# Altium footprint library RU_connectors.PcbLib: 17 footprints (part 1 of 2)
Each footprint in its own frame and in the unit in brackets; x right, y up, seen from the top. Pads: shape width x height; smd on the part's side, far side on the other; paste and mask are expansions set on the pad; w line width, h text height; cw(c..) or ccw(c..) is an arc to the next point about the centre after c.
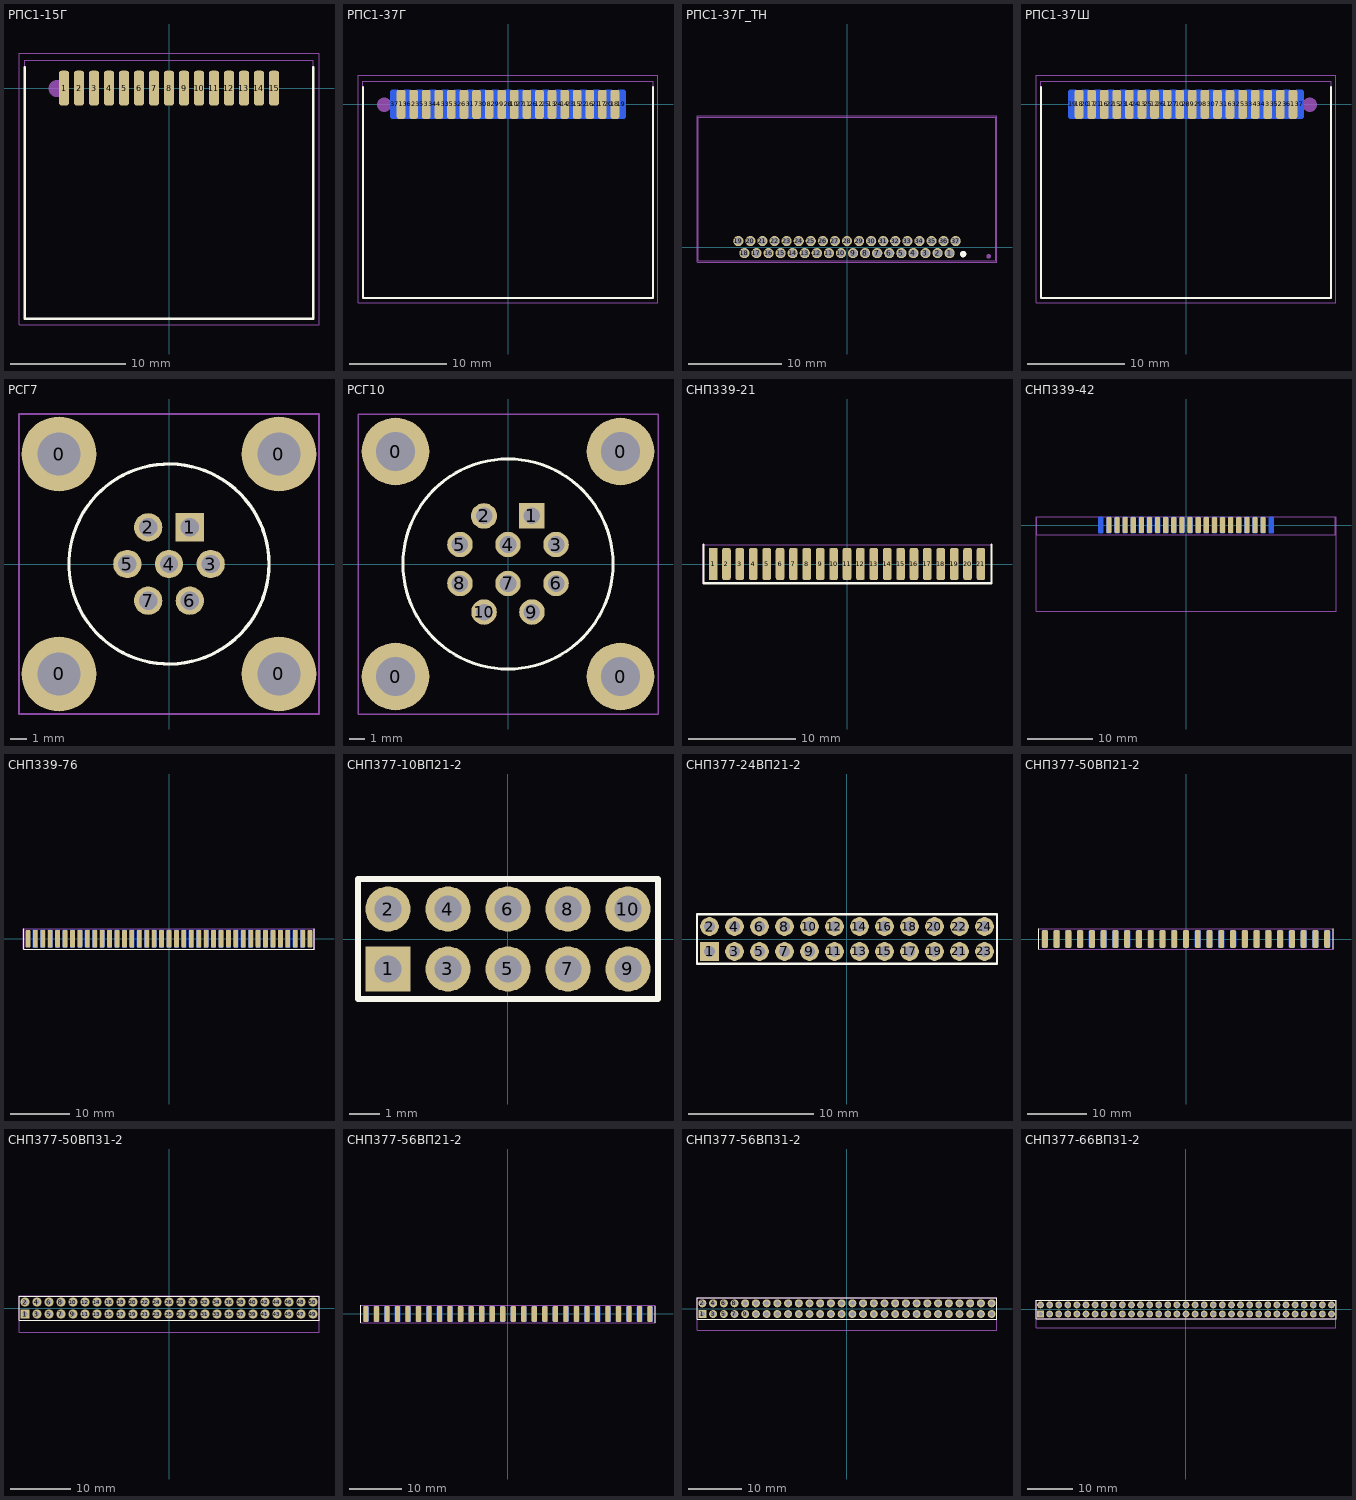
[diagram p0: the footprints below, top view; thin cyan lines are the x and y axes]

## РПС1-15Г [mm] "Соединитель серии РПС1, 37 выводов"
height 8
pads (15):
  rrect50% 0.9x3 smd: 1(-9.1,0) 2(-7.8,0) 3(-6.5,0) 4(-5.2,0) 5(-3.9,0) 6(-2.6,0) 7(-1.3,0) 8(0,0) 9(1.3,0) 10(2.6,0) 11(3.9,0) 12(5.2,0) 13(6.5,0) 14(7.8,0) 15(9.1,0)
Top Overlay:
  lines w0.2: -12.5,1.8 -12.5,-20 12.5,-20 12.5,1.8
Top Assembly:
  lines w0.1: -12.5,-20 12.5,-20 12.5,2.399 -12.5,2.399 -12.5,-20
  lines w1.5: -9.703,-0.047 ccw(c-9.704,-0.047) -9.704,-0.047
  text ".Designator" at -4.998,-0.333 h1
Top Courtyard (Mech15):
  lines w0.05: -13,-20.5 13,-20.5 13,3 -13,3 -13,-20.5
3D body "Розетка РПС1-М-15Г ЦСНК.430421.010ТУ.STEP": height 2.85, standoff -2.35, extent -13.25,-12.55 13.25,8.95

## РПС1-37Г [mm] "Соединитель серии РПС1, 37 выводов"
height 8
pads (37):
  rrect50% 0.9x3 smd: 1(-11.05,0) 2(-9.75,0) 3(-8.45,0) 4(-7.15,0) 5(-5.85,0) 6(-4.55,0) 7(-3.25,0) 8(-1.95,0) 9(-0.65,0) 10(0.65,0) 11(1.95,0) 12(3.25,0) 13(4.55,0) 14(5.85,0) 15(7.15,0) 16(8.45,0) 17(9.75,0) 18(11.05,0)
  rrect50% 0.9x3 smd far side: 19(11.7,0) 20(10.4,0) 21(9.1,0) 22(7.8,0) 23(6.5,0) 24(5.2,0) 25(3.9,0) 26(2.6,0) 27(1.3,0) 28(0,0) 29(-1.3,0) 30(-2.6,0) 31(-3.9,0) 32(-5.2,0) 33(-6.5,0) 34(-7.8,0) 35(-9.1,0) 36(-10.4,0) 37(-11.7,0)
Top Overlay:
  lines w0.2: -15,1.8 -15,-20 15,-20 15,1.8
Top Assembly:
  lines w0.1: -15,-20 -15,2.399 15,2.399 15,-20 -15,-20
  lines w1.5: -12.796,-0.047 ccw(c-12.796,-0.047) -12.797,-0.047
  text ".Designator" at -4.998,-0.333 h1
Top Courtyard (Mech15):
  lines w0.05: -15.5,-20.5 -15.5,3 15.5,3 15.5,-20.5 -15.5,-20.5
3D body "Розетка РПС1-37Г ОЮ0364.044ТУ.STEP": height 2.45, standoff -2.75, extent -15.725,-12.425 15.775,-0.725

## РПС1-37Г_TH [mm]
pads (37):
  round 1.1 hole 0.8: 1(11.05,-0.65) 2(9.75,-0.65) 3(8.45,-0.65) 4(7.15,-0.65) 5(5.85,-0.65) 6(4.55,-0.65) 7(3.25,-0.65) 8(1.95,-0.65) 9(0.65,-0.65) 10(-0.65,-0.65) 11(-1.95,-0.65) 12(-3.25,-0.65) 13(-4.55,-0.65) 14(-5.85,-0.65) 15(-7.15,-0.65) 16(-8.45,-0.65) 17(-9.75,-0.65) 18(-11.05,-0.65) 19(-11.7,0.65) 20(-10.4,0.65) 21(-9.1,0.65) 22(-7.8,0.65) 23(-6.5,0.65) 24(-5.2,0.65) 25(-3.9,0.65) 26(-2.6,0.65) 27(-1.3,0.65) 28(0,0.65) 29(1.3,0.65) 30(2.6,0.65) 31(3.9,0.65) 32(5.2,0.65) 33(6.5,0.65) 34(7.8,0.65) 35(9.1,0.65) 36(10.4,0.65) 37(11.7,0.65)
Top Overlay:
  circle w0.5: c12.5,-0.75 r0.1
Top Assembly:
  circle w0.3: c15.25,-1 r0.1
  lines w0.1: -16,-1.5 16,-1.5 16,14 -16,14 -16,-1.5
  text ".Designator" at -4.998,-0.333 h1
Top Courtyard (Mech15):
  lines w0.05: -16.15,-1.65 16.15,-1.65 16.15,14.15 -16.15,14.15 -16.15,-1.65

## РПС1-37Ш [mm] "Соединитель серии РПС1, 37 выводов"
height 8
pads (37):
  rrect50% 0.9x3 smd: 1(11.05,0) 2(9.75,0) 3(8.45,0) 4(7.15,0) 5(5.85,0) 6(4.55,0) 7(3.25,0) 8(1.95,0) 9(0.65,0) 10(-0.65,0) 11(-1.95,0) 12(-3.25,0) 13(-4.55,0) 14(-5.85,0) 15(-7.15,0) 16(-8.45,0) 17(-9.75,0) 18(-11.05,0)
  rrect50% 0.9x3 smd far side: 19(-11.7,0) 20(-10.4,0) 21(-9.1,0) 22(-7.8,0) 23(-6.5,0) 24(-5.2,0) 25(-3.9,0) 26(-2.6,0) 27(-1.3,0) 28(0,0) 29(1.3,0) 30(2.6,0) 31(3.9,0) 32(5.2,0) 33(6.5,0) 34(7.8,0) 35(9.1,0) 36(10.4,0) 37(11.7,0)
Top Overlay:
  lines w0.2: -15,1.8 -15,-20 15,-20 15,1.8
Top Assembly:
  lines w0.1: -15,-20 15,-20 15,2.399 -15,2.399 -15,-20
  lines w1.5: 12.797,-0.047 ccw(c12.796,-0.047) 12.796,-0.047
  text ".Designator" at -4.998,-0.333 h1
Top Courtyard (Mech15):
  lines w0.05: -15.5,-20.5 15.5,-20.5 15.5,3 -15.5,3 -15.5,-20.5
3D body "Вилка РПС1-37Ш ОЮ0364.044ТУ.STEP": height 2.5, standoff -2.7, extent -15.775,-12.225 15.725,-0.725

## РСГ7 [mm]
pads (11):
  round 4.5 hole 2.6: 0(-6.6,-6.6) 0(-6.6,6.6) 0(6.6,-6.6) 0(6.6,6.6)
  rect 1.7x1.7 hole 1.1: 1(1.25,2.2)
  round 1.7 hole 1.1: 2(-1.25,2.2) 3(2.5,0) 4(0,0) 5(-2.5,0) 6(1.25,-2.2) 7(-1.25,-2.2)
Top Overlay:
  circle w0.2: c0,0 r6
Top Assembly:
  lines w0.1: -9,-9 -9,9 9,9 9,-9 -9,-9
  text ".Designator" at -4.998,-0.333 h1
Top Courtyard (Mech15):
  lines w0.05: -9,-9 9,-9 9,9 -9,9 -9,-9

## РСГ10 [mm]
pads (14):
  round 4.5 hole 2.6: 0(-7.5,-7.5) 0(-7.5,7.5) 0(7.5,7.5)
  round 4.5 / inner round 4 / far side round 4.5 hole 2.6: 0(7.5,-7.5)
  rect 1.7x1.7 hole 1.1: 1(1.6,3.2)
  oval 1.73x1.7 hole 1.1: 2(-1.6,3.2)
  round 1.7 hole 1.1: 3(3.2,1.3) 4(0,1.3) 5(-3.2,1.3) 6(3.2,-1.3) 7(0,-1.3) 8(-3.2,-1.3) 9(1.6,-3.2) 10(-1.6,-3.2)
Top Overlay:
  circle w0.2: c0,0 r7
Top Assembly:
  lines w0.1: -10,-10 10,-10 10,10 -10,10 -10,-10
  text ".Designator" at -4.998,-0.333 h1
Top Courtyard (Mech15):
  lines w0.05: -10,-10 -10,10 10,10 10,-10 -10,-10

## СНП339-21 [mm] "Соединитель серии СНП339, 21 вывод"
height 8
pads (21):
  rect 0.8x3 smd: 1(-12.5,0)
  rrect50% 0.8x3 smd: 2(-11.25,0) 3(-10,0) 4(-8.75,0) 5(-7.5,0) 6(-6.25,0) 7(-5,0) 8(-3.75,0) 9(-2.5,0) 10(-1.25,0) 11(0,0) 12(1.25,0) 13(2.5,0) 14(3.75,0) 15(5,0) 16(6.25,0) 17(7.5,0) 18(8.75,0) 19(10,0) 20(11.25,0) 21(12.5,0)
Top Overlay:
  lines w0.2: -13.4,1.8 -13.4,-1.8 13.5,-1.8 13.5,1.8
Top Assembly:
  lines w0.1: -13.4,-1.8 -13.4,1.8 13.5,1.8 13.5,-1.8 -13.4,-1.8
  text ".Designator" at -4.998,-0.333 h1
Top Courtyard (Mech15):
  lines w0.05: -13.4,-1.8 -13.4,1.8 13.5,1.8 13.5,-1.8 -13.4,-1.8

## СНП339-42 [mm] "Соединитель серии СНП339, 42 выводов"
height 8
pads (42):
  rrect50% 0.8x2.5 smd: 1(-11.875,0) 2(-10.625,0) 3(-9.375,0) 4(-8.125,0) 5(-6.875,0) 6(-5.625,0) 7(-4.375,0) 8(-3.125,0) 9(-1.875,0) 10(-0.625,0) 11(0.625,0) 12(1.875,0) 13(3.125,0) 14(4.375,0) 15(5.625,0) 16(6.875,0) 17(8.125,0) 18(9.375,0) 19(10.625,0) 20(11.875,0)
  rrect50% 0.8x2.5 smd far side: 21(-13.125,0) 22(-11.875,0) 23(-10.625,0) 24(-9.375,0) 25(-8.125,0) 26(-6.875,0) 27(-5.625,0) 28(-4.375,0) 29(-3.125,0) 30(-1.875,0) 31(-0.625,0) 32(0.625,0) 33(1.875,0) 34(3.125,0) 35(4.375,0) 36(5.625,0) 37(6.875,0) 38(8.125,0) 39(9.375,0) 40(10.625,0) 41(11.875,0) 42(13.125,0)
Top Assembly:
  lines w0.1: -23,-1.5 23,-1.5 23,1.25 -23,1.25 -23,-1.5
  text ".Designator" at -4.998,-0.333 h1
Top Courtyard (Mech15):
  lines w0.05: -23.1,-13.3 23.1,-13.3 23.1,-1.9 23.1,1.3 -23.1,1.3 -23.1,-13.3
3D body "Розетка СНП339-42б_планарный.STEP": height 3, standoff -5, extent -23,-13.05 23,1.25

## СНП339-76 [mm] "Соединитель серии СНП339, 76 выводов"
height 8
pads (76):
  rrect5% 0.8x3 smd far side: 1(-22.5,0)
  rrect50% 0.8x3 smd far side: 2(-21.25,0) 3(-20,0) 4(-18.75,0) 5(-17.5,0) 6(-16.25,0) 7(-15,0) 8(-13.75,0) 9(-12.5,0) 10(-11.25,0) 11(-10,0) 12(-8.75,0) 13(-7.5,0) 14(-6.25,0) 15(-5,0) 16(-3.75,0) 17(-2.5,0) 18(-1.25,0) 19(0,0) 20(1.25,0) 21(2.5,0) 22(3.75,0) 23(5,0) 24(6.25,0) 25(7.5,0) 26(8.75,0) 27(10,0) 28(11.25,0) 29(12.5,0) 30(13.75,0) 31(15,0) 32(16.25,0) 33(17.5,0) 34(18.75,0) 35(20,0) 36(21.25,0) 37(22.5,0)
  rrect50% 0.8x3 smd: 38(-23.75,0) 39(-22.5,0) 40(-21.25,0) 41(-20,0) 42(-18.75,0) 43(-17.5,0) 44(-16.25,0) 45(-15,0) 46(-13.75,0) 47(-12.5,0) 48(-11.25,0) 49(-10,0) 50(-8.75,0) 51(-7.5,0) 52(-6.25,0) 53(-5,0) 54(-3.75,0) 55(-2.5,0) 56(-1.25,0) 57(0,0) 58(1.25,0) 59(2.5,0) 60(3.75,0) 61(5,0) 62(6.25,0) 63(7.5,0) 64(8.75,0) 65(10,0) 66(11.25,0) 67(12.5,0) 68(13.75,0) 69(15,0) 70(16.25,0) 71(17.5,0) 72(18.75,0) 73(20,0) 74(21.25,0) 75(22.5,0) 76(23.75,0)
Top Overlay:
  lines w0.2: -24.45,1.7 -24.45,-1.8 24.45,-1.8 24.45,1.7
Top Assembly:
  lines w0.1: -24.5,-1.8 24.5,-1.8 24.5,1.7 -24.5,1.7 -24.5,-1.8
  text ".Designator" at -4.998,-0.333 h1
Top Courtyard (Mech15):
  lines w0.05: -24.4,-1.8 -24.4,1.7 24.4,1.7 24.4,-1.8 -24.4,-1.8

## СНП377-10ВП21-2 [mm] "Вилка серии СНП377, прямая, двухрядная, 10 выводов"
height 2
pads (10):
  rect 1.5x1.5 hole 0.9: 1(-4,-1)
  round 1.5 hole 0.9: 2(-4,1) 3(-2,-1) 4(-2,1) 5(0,-1) 6(0,1) 7(2,-1) 8(2,1) 9(4,-1) 10(4,1)
Top Overlay:
  lines w0.2: -5,-2 -5,2 5,2 5,-2 -5,-2
Top Assembly:
  circle w0.4: c-4.1,-1.1 r0.2
  lines w0.1: -5,-2 -5,2 5,2 5,-2 -5,-2
  text ".Designator" at -4.998,-0.333 h1
Top Courtyard (Mech15):
  lines w0.05: -5,-2 5,-2 5,2 -5,2 -5,-2

## СНП377-24ВП21-2 [mm] "Вилка серии СНП377, прямая, двухрядная, 24 вывода"
height 2
pads (24):
  rect 1.5x1.5 hole 0.9: 1(-11,-1)
  round 1.5 hole 0.9: 2(-11,1) 3(-9,-1) 4(-9,1) 5(-7,-1) 6(-7,1) 7(-5,-1) 8(-5,1) 9(-3,-1) 10(-3,1) 11(-1,-1) 12(-1,1) 13(1,-1) 14(1,1) 15(3,-1) 16(3,1) 17(5,-1) 18(5,1) 19(7,-1) 20(7,1) 21(9,-1) 22(9,1) 23(11,-1) 24(11,1)
Top Overlay:
  lines w0.2: -12,-2 12,-2 12,2 -12,2 -12,-2
Top Assembly:
  circle w0.4: c-11.1,-1.1 r0.2
  lines w0.1: -12,-2 12,-2 12,2 -12,2 -12,-2
  text ".Designator" at -4.998,-0.333 h1
Top Courtyard (Mech15):
  lines w0.05: -12,-2 12,-2 12,2 -12,2 -12,-2

## СНП377-50ВП21-2 [mm] "Вилка серии СНП377, двухрядная, 50 выводов, торцевая"
height 5.5
pads (50):
  rrect50% 1x3 smd: 1(-24,0) 3(-22,0) 5(-20,0) 7(-18,0) 9(-16,0) 11(-14,0) 13(-12,0) 15(-10,0) 17(-8,0) 19(-6,0) 21(-4,0) 23(-2,0) 25(0,0) 27(2,0) 29(4,0) 31(6,0) 33(8,0) 35(10,0) 37(12,0) 39(14,0) 41(16,0) 43(18,0) 45(20,0) 47(22,0) 49(24,0)
  rrect50% 1x3 smd far side: 2(-24,0) 4(-22,0) 6(-20,0) 8(-18,0) 10(-16,0) 12(-14,0) 14(-12,0) 16(-10,0) 18(-8,0) 20(-6,0) 22(-4,0) 24(-2,0) 26(0,0) 28(2,0) 30(4,0) 32(6,0) 34(8,0) 36(10,0) 38(12,0) 40(14,0) 42(16,0) 44(18,0) 46(20,0) 48(22,0) 50(24,0)
Top Overlay:
  lines w0.2: -25,-1.7 -25,1.7 ; 25,-1.7 25,1.7
Bottom Overlay:
  lines w0.2: -25,-1.7 -25,1.5 ; 25,-1.7 25,1.7
Top Assembly:
  lines w0.1: -25,-1.7 25,-1.7 25,1.7 -25,1.7 -25,-1.7
  text ".Designator" at -4.998,-0.333 h1
Top Courtyard (Mech15):
  lines w0.05: -25,-1.7 25,-1.7 25,1.7 -25,1.7 -25,-1.7

## СНП377-50ВП31-2 [mm] "Вилка серии СНП377, угловая, двухрядная, 50 выводов"
height 4
pads (50):
  rect 1.5x1.5 hole 0.9: 1(-24,-1)
  round 1.5 hole 0.9: 2(-24,1) 3(-22,-1) 4(-22,1) 5(-20,-1) 6(-20,1) 7(-18,-1) 8(-18,1) 9(-16,-1) 10(-16,1) 11(-14,-1) 12(-14,1) 13(-12,-1) 14(-12,1) 15(-10,-1) 16(-10,1) 17(-8,-1) 18(-8,1) 19(-6,-1) 20(-6,1) 21(-4,-1) 22(-4,1) 23(-2,-1) 24(-2,1) 25(0,-1) 26(0,1) 27(2,-1) 28(2,1) 29(4,-1) 30(4,1) 31(6,-1) 32(6,1) 33(8,-1) 34(8,1) 35(10,-1) 36(10,1) 37(12,-1) 38(12,1) 39(14,-1) 40(14,1) 41(16,-1) 42(16,1) 43(18,-1) 44(18,1) 45(20,-1) 46(20,1) 47(22,-1) 48(22,1) 49(24,-1) 50(24,1)
Top Overlay:
  lines w0.2: -25,-2 25,-2 25,2 -25,2 -25,-2
Top Assembly:
  circle w0.4: c-24.1,-1.1 r0.2
  lines w0.1: -25,-2 -25,2 25,2 25,-2 -25,-2
  text ".Designator" at -4.998,-0.333 h1
Top Courtyard (Mech15):
  lines w0.05: -25,-4 25,-4 25,2 -25,2 -25,-4

## СНП377-56ВП21-2 [mm] "Вилка серии СНП377, двухрядная, 56 выводов, торцевая"
height 5.5
pads (56):
  rrect50% 1x3 smd: 1(-27,0) 3(-25,0) 5(-23,0) 7(-21,0) 9(-19,0) 11(-17,0) 13(-15,0) 15(-13,0) 17(-11,0) 19(-9,0) 21(-7,0) 23(-5,0) 25(-3,0) 27(-1,0) 29(1,0) 31(3,0) 33(5,0) 35(7,0) 37(9,0) 39(11,0) 41(13,0) 43(15,0) 45(17,0) 47(19,0) 49(21,0) 51(23,0) 53(25,0) 55(27,0)
  rrect50% 1x3 smd far side: 2(-27,0) 4(-25,0) 6(-23,0) 8(-21,0) 10(-19,0) 12(-17,0) 14(-15,0) 16(-13,0) 18(-11,0) 20(-9,0) 22(-7,0) 24(-5,0) 26(-3,0) 28(-1,0) 30(1,0) 32(3,0) 34(5,0) 36(7,0) 38(9,0) 40(11,0) 42(13,0) 44(15,0) 46(17,0) 48(19,0) 50(21,0) 52(23,0) 54(25,0) 56(27,0)
Top Overlay:
  lines w0.2: -28,-1.7 -28,1.7 ; 28,-1.7 28,1.5
Bottom Overlay:
  lines w0.2: -28,-1.7 -28,1.7 ; 28,-1.7 28,1.5
Top Assembly:
  lines w0.1: -28,-1.7 28,-1.7 28,1.7 -28,1.7 -28,-1.7
  text ".Designator" at -4.998,-0.333 h1
Top Courtyard (Mech15):
  lines w0.05: -28,-1.7 -28,1.7 28,1.7 28,-1.7 -28,-1.7

## СНП377-56ВП31-2 [mm] "Вилка серии СНП377, угловая, двухрядная, 56 выводов"
height 4
pads (56):
  rect 1.5x1.5 hole 0.9: 1(-27,-1)
  round 1.5 hole 0.9: 2(-27,1) 3(-25,-1) 4(-25,1) 5(-23,-1) 6(-23,1) 7(-21,-1) 8(-21,1) 9(-19,-1) 10(-19,1) 11(-17,-1) 12(-17,1) 13(-15,-1) 14(-15,1) 15(-13,-1) 16(-13,1) 17(-11,-1) 18(-11,1) 19(-9,-1) 20(-9,1) 21(-7,-1) 22(-7,1) 23(-5,-1) 24(-5,1) 25(-3,-1) 26(-3,1) 27(-1,-1) 28(-1,1) 29(1,-1) 30(1,1) 31(3,-1) 32(3,1) 33(5,-1) 34(5,1) 35(7,-1) 36(7,1) 37(9,-1) 38(9,1) 39(11,-1) 40(11,1) 41(13,-1) 42(13,1) 43(15,-1) 44(15,1) 45(17,-1) 46(17,1) 47(19,-1) 48(19,1) 49(21,-1) 50(21,1) 51(23,-1) 52(23,1) 53(25,-1) 54(25,1) 55(27,-1) 56(27,1)
Top Overlay:
  lines w0.2: -28,-2 28,-2 28,2 -28,2 -28,-2
Top Assembly:
  circle w0.4: c-27.1,-1.1 r0.2
  lines w0.1: -28,-2 -28,2 28,2 28,-2 -28,-2
  text ".Designator" at -4.998,-0.333 h1
Top Courtyard (Mech15):
  lines w0.05: -28,-4 -28,2 28,2 28,-4 -28,-4

## СНП377-66ВП31-2 [mm] "Вилка серии СНП377, угловая, двухрядная, 66 выводов"
height 4
pads (66):
  rect 1.5x1.5 hole 0.9: 1(-32,-1)
  round 1.5 hole 0.9: 2(-32,1) 3(-30,-1) 4(-30,1) 5(-28,-1) 6(-28,1) 7(-26,-1) 8(-26,1) 9(-24,-1) 10(-24,1) 11(-22,-1) 12(-22,1) 13(-20,-1) 14(-20,1) 15(-18,-1) 16(-18,1) 17(-16,-1) 18(-16,1) 19(-14,-1) 20(-14,1) 21(-12,-1) 22(-12,1) 23(-10,-1) 24(-10,1) 25(-8,-1) 26(-8,1) 27(-6,-1) 28(-6,1) 29(-4,-1) 30(-4,1) 31(-2,-1) 32(-2,1) 33(0,-1) 34(0,1) 35(2,-1) 36(2,1) 37(4,-1) 38(4,1) 39(6,-1) 40(6,1) 41(8,-1) 42(8,1) 43(10,-1) 44(10,1) 45(12,-1) 46(12,1) 47(14,-1) 48(14,1) 49(16,-1) 50(16,1) 51(18,-1) 52(18,1) 53(20,-1) 54(20,1) 55(22,-1) 56(22,1) 57(24,-1) 58(24,1) 59(26,-1) 60(26,1) 61(28,-1) 62(28,1) 63(30,-1) 64(30,1) 65(32,-1) 66(32,1)
Top Overlay:
  lines w0.2: -33,-2 33,-2 33,2 -33,2 -33,-2
Top Assembly:
  circle w0.4: c-32.1,-1.1 r0.2
  lines w0.1: -33,-2 -33,2 33,2 33,-2 -33,-2
  text ".Designator" at -4.998,-0.333 h1
Top Courtyard (Mech15):
  lines w0.05: -33,-4 -33,2 33,2 33,-4 -33,-4